# EAGLE library part CON-RJ45 (library steves)
Chinese RJ-45 connector (grey).
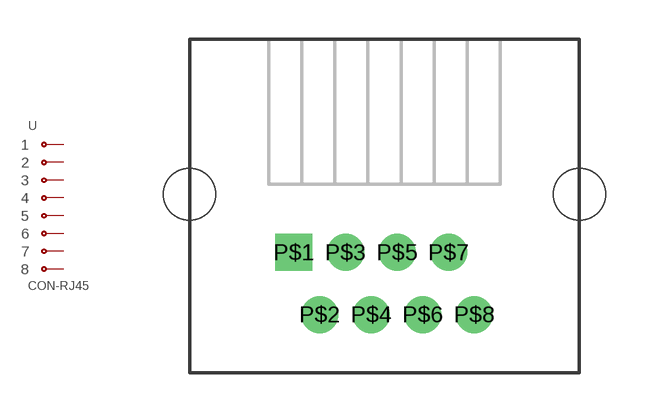
[diagram p32: symbol with the pads of CON-RJ45-1X8; footprint CON-RJ45-1X8]

Designator prefix -

## CON-RJ45  [CON-RJ45-1X8]
P$1  1  pas
P$2  2  pas
P$3  3  pas
P$4  4  pas
P$5  5  pas
P$6  6  pas
P$7  7  pas
P$8  8  pas

## Footprint CON-RJ45-1X8 (pad centres in mm)
Chinese RJ-45 socket.
drill 0.6 pad 1.422 square: P$1 -3.48,1.194
drill 0.6 pad 1.422: P$2 -2.489,-1.194; P$3 -1.499,1.194; P$4 -0.508,-1.194; P$5 0.483,1.194; P$6 1.473,-1.194; P$7 2.464,1.194; P$8 3.454,-1.194
hole 2 at -7.493,3.429
hole 2 at 7.493,3.429